# Altium footprint library DCPS3.PcbLib: 2 footprints
Each footprint in its own frame and in the unit in brackets; x right, y up, seen from the top. Pads: shape width x height; smd on the part's side, far side on the other; paste and mask are expansions set on the pad; w line width, h text height; cw(c..) or ccw(c..) is an arc to the next point about the centre after c.
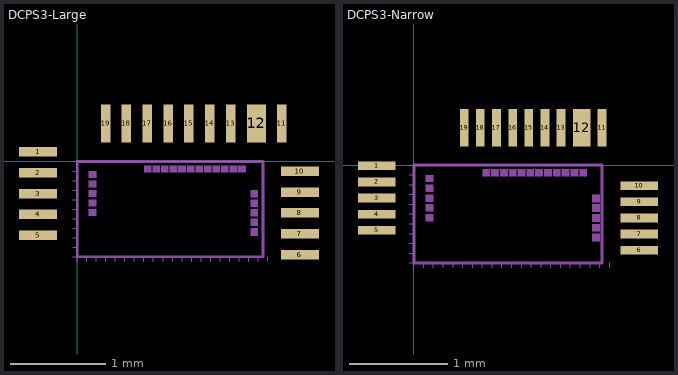
[diagram p0: the footprints below, top view; thin cyan lines are the x and y axes]

## DCPS3-Large [mm]
pads (19):
  rect 0.4x0.1 smd mask+0.06: 1(-0.412,0.1) 2(-0.412,-0.119) 3(-0.412,-0.337) 4(-0.412,-0.556) 5(-0.412,-0.775) 6(2.338,-0.978) 7(2.338,-0.759) 8(2.338,-0.54) 9(2.338,-0.321) 10(2.338,-0.102)
  rect 0.1x0.4 smd mask+0.06: 11(2.149,0.4) 13(1.61,0.4) 14(1.391,0.4) 15(1.172,0.4) 16(0.953,0.4) 17(0.734,0.4) 18(0.515,0.4) 19(0.296,0.4)
  rect 0.2x0.4 smd mask+0.06: 12(1.88,0.4)
Guides:
  rectangle: 1.82,-0.78 1.9,-0.7
  rectangle: 1.82,-0.68 1.9,-0.6
  rectangle: 1.82,-0.58 1.9,-0.5
  rectangle: 1.82,-0.48 1.9,-0.4
  rectangle: 1.82,-0.38 1.9,-0.3
  rectangle: 0.12,-0.175 0.2,-0.1
  rectangle: 0.12,-0.275 0.2,-0.2
  rectangle: 0.12,-0.375 0.2,-0.3
  rectangle: 0.12,-0.475 0.2,-0.4
  rectangle: 0.12,-0.575 0.2,-0.5
  rectangle: 0.7,-0.115 0.78,-0.04
  rectangle: 0.79,-0.115 0.87,-0.04
  rectangle: 0.88,-0.115 0.96,-0.04
  rectangle: 0.97,-0.115 1.05,-0.04
  rectangle: 1.06,-0.115 1.14,-0.04
  rectangle: 1.15,-0.115 1.23,-0.04
  rectangle: 1.24,-0.115 1.32,-0.04
  rectangle: 1.33,-0.115 1.41,-0.04
  rectangle: 1.42,-0.115 1.5,-0.04
  rectangle: 1.51,-0.115 1.59,-0.04
  rectangle: 1.6,-0.115 1.68,-0.04
  rectangle: 1.69,-0.115 1.77,-0.04
  lines w0.01: -0.05,-1 0,-1 0,-1.05 ; -0.05,-0.9 0,-0.9 ; -0.05,-0.8 0,-0.8 ; -0.05,-0.7 0,-0.7 ; -0.05,-0.6 0,-0.6 ; -0.05,-0.5 0,-0.5 ; -0.05,-0.4 0,-0.4 ; -0.05,-0.3 0,-0.3 ; -0.05,-0.2 0,-0.2 ; -0.05,-0.1 0,-0.1 ; -0.05,0 0,0 ; 0.1,-1.05 0.1,-1 ; 0.2,-1.05 0.2,-1 ; 0.3,-1.05 0.3,-1 ; 0.4,-1.05 0.4,-1 ; 0.5,-1.05 0.5,-1 ; 0.6,-1.05 0.6,-1 ; 0.7,-1.05 0.7,-1 ; 0.8,-1.05 0.8,-1 ; 0.9,-1.05 0.9,-1 ; 1.1,-1.05 1.1,-1 ; 1.2,-1.05 1.2,-1 ; 1.3,-1.05 1.3,-1 ; 1.4,-1.05 1.4,-1 ; 1.5,-1.05 1.5,-1 ; 1.6,-1.05 1.6,-1 ; 1.7,-1.05 1.7,-1 ; 1.8,-1.05 1.8,-1 ; 1.9,-1.05 1.9,-1 ; 2,-1.05 2,-1 ; 1,-1.05 1,-1 1,-1.05
  lines w0.03: 0,-1 0,0 1.95,0 1.95,-1 0,-1
  text "0mm" at -0.145,-0.995 h0.02
  text "10mm" at -0.145,0.005 h0.02
  text "5mm" at -0.145,-0.495 h0.02
  text "1mm" at -0.145,-0.895 h0.02
  text "0mm" at 0.005,-1.095 h0.02
  text "1mm" at 0.105,-1.095 h0.02
  text "5mm" at 0.505,-1.095 h0.02
  text "10mm" at 1.005,-1.095 h0.02
  text "15mm" at 1.505,-1.095 h0.02
  text "20mm" at 2.005,-1.095 h0.02

## DCPS3-Narrow [mil]
pads (19):
  rect 15x3.5 smd mask+1.5: 1(-15,-0.29) 2(-15,-6.79) 3(-15,-13.29) 4(-15,-19.79) 5(-15,-26.29) 6(90.72,-34.26) 7(90.72,-27.76) 8(90.72,-21.26) 9(90.72,-14.76) 10(90.72,-8.26)
  rect 3.5x15 smd mask+1.5: 11(75.72,15.01) 13(59.22,15.01) 14(52.72,15.01) 15(46.22,15.01) 16(39.72,15.01) 17(33.22,15.01) 18(26.72,15.01) 19(20.22,15.01)
  rect 7x15 smd mask+1.5: 12(67.47,15.01)
Guides:
  rectangle: 66.54,-4.53 69.69,-1.57
  rectangle: 62.99,-4.53 66.14,-1.57
  rectangle: 59.45,-4.53 62.6,-1.57
  rectangle: 55.91,-4.53 59.06,-1.57
  rectangle: 52.36,-4.53 55.51,-1.57
  rectangle: 48.82,-4.53 51.97,-1.57
  rectangle: 45.28,-4.53 48.43,-1.57
  rectangle: 41.73,-4.53 44.88,-1.57
  rectangle: 38.19,-4.53 41.34,-1.57
  rectangle: 34.65,-4.53 37.8,-1.57
  rectangle: 31.1,-4.53 34.25,-1.57
  rectangle: 27.56,-4.53 30.71,-1.57
  rectangle: 4.72,-22.64 7.87,-19.68
  rectangle: 4.72,-18.7 7.87,-15.75
  rectangle: 4.72,-14.76 7.87,-11.81
  rectangle: 4.72,-10.83 7.87,-7.87
  rectangle: 4.72,-6.89 7.87,-3.94
  rectangle: 71.65,-14.96 74.8,-11.81
  rectangle: 71.65,-18.9 74.8,-15.75
  rectangle: 71.65,-22.83 74.8,-19.68
  rectangle: 71.65,-26.77 74.8,-23.62
  rectangle: 71.65,-30.71 74.8,-27.56
  lines w0.39: -1.97,-39.37 0,-39.37 0,-41.34 ; -1.97,-35.43 0,-35.43 ; -1.97,-31.5 0,-31.5 ; -1.97,-27.56 0,-27.56 ; -1.97,-23.62 0,-23.62 ; -1.97,-19.68 0,-19.68 ; -1.97,-15.75 0,-15.75 ; -1.97,-11.81 0,-11.81 ; -1.97,-7.88 0,-7.88 ; -1.97,-3.94 0,-3.94 ; -1.97,0 0,0 ; 3.94,-41.34 3.94,-39.37 ; 7.88,-41.34 7.88,-39.37 ; 11.81,-41.34 11.81,-39.37 ; 15.75,-41.34 15.75,-39.37 ; 19.68,-41.34 19.68,-39.37 ; 23.62,-41.34 23.62,-39.37 ; 27.56,-41.34 27.56,-39.37 ; 31.5,-41.34 31.5,-39.37 ; 35.43,-41.34 35.43,-39.37 ; 43.31,-41.34 43.31,-39.37 ; 47.25,-41.34 47.25,-39.37 ; 51.18,-41.34 51.18,-39.37 ; 55.12,-41.34 55.12,-39.37 ; 59.06,-41.34 59.06,-39.37 ; 62.99,-41.34 62.99,-39.37 ; 66.93,-41.34 66.93,-39.37 ; 70.87,-41.34 70.87,-39.37 ; 74.8,-41.34 74.8,-39.37 ; 78.74,-41.34 78.74,-39.37 ; 39.37,-41.34 39.37,-39.37 39.37,-41.34
  lines w1.18: 0,-39.37 75.72,-39.37 75.72,0.01 0,0.01 0,-39.37
  text "20mm" at 78.94,-43.11 h0.79
  text "15mm" at 59.25,-43.11 h0.79
  text "10mm" at 39.57,-43.11 h0.79
  text "5mm" at 19.88,-43.11 h0.79
  text "1mm" at 4.13,-43.11 h0.79
  text "0mm" at 0.2,-43.11 h0.79
  text "1mm" at -5.71,-35.24 h0.79
  text "5mm" at -5.71,-19.49 h0.79
  text "10mm" at -5.71,0.2 h0.79
  text "0mm" at -5.71,-39.17 h0.79